# Altium schematic symbol library test1.SchLib: 4 symbols
Pins are listed as number, name and electrical type; pins without a type are passive.

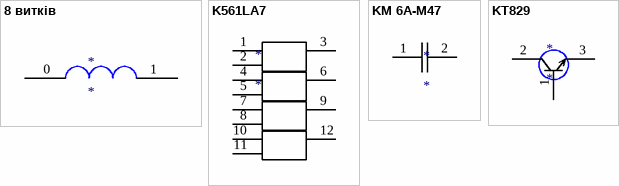
[diagram p0: symbols 8 витків to KT829]

## 8 витків
designator *
footprint 8 turns
pins: 0, 1

## K561LA7
designator *
footprint K561LA7
pins: 1, 2, 3, 4, 5, 6, 7, 8, 9, 10, 11, 12

## KM 6А-М47
designator *
footprint KM 6A-M47
pins: 1, 2

## KT829
designator *
footprint KT829
pins: 1, 2, 3